# EAGLE library part SN74LVC1T45 (library OpenSpace)
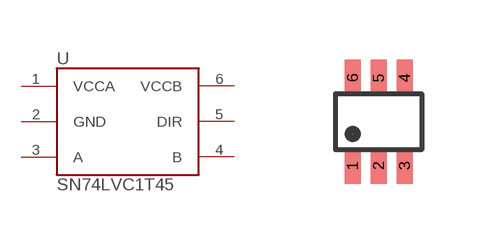
[diagram p1: symbol with the pads of SC70; footprint SC70]

Designator prefix -

## SN74LVC1T45-DCK  [SC70]
1  VCCA
2  GND
3  A
4  B
5  DIR
6  VCCB

## Footprint SC70 (pad centres in mm)
smd 0.4 x 0.9: 1 -0.65,-1.1; 2 0,-1.1; 3 0.65,-1.1; 4 0.65,1.1; 5 0,1.1; 6 -0.65,1.1